# Altium integrated library Analog Devices Switches and Multiplexers Multiplexers (Muxes).IntLib: 481 symbols (part 10 of 23)
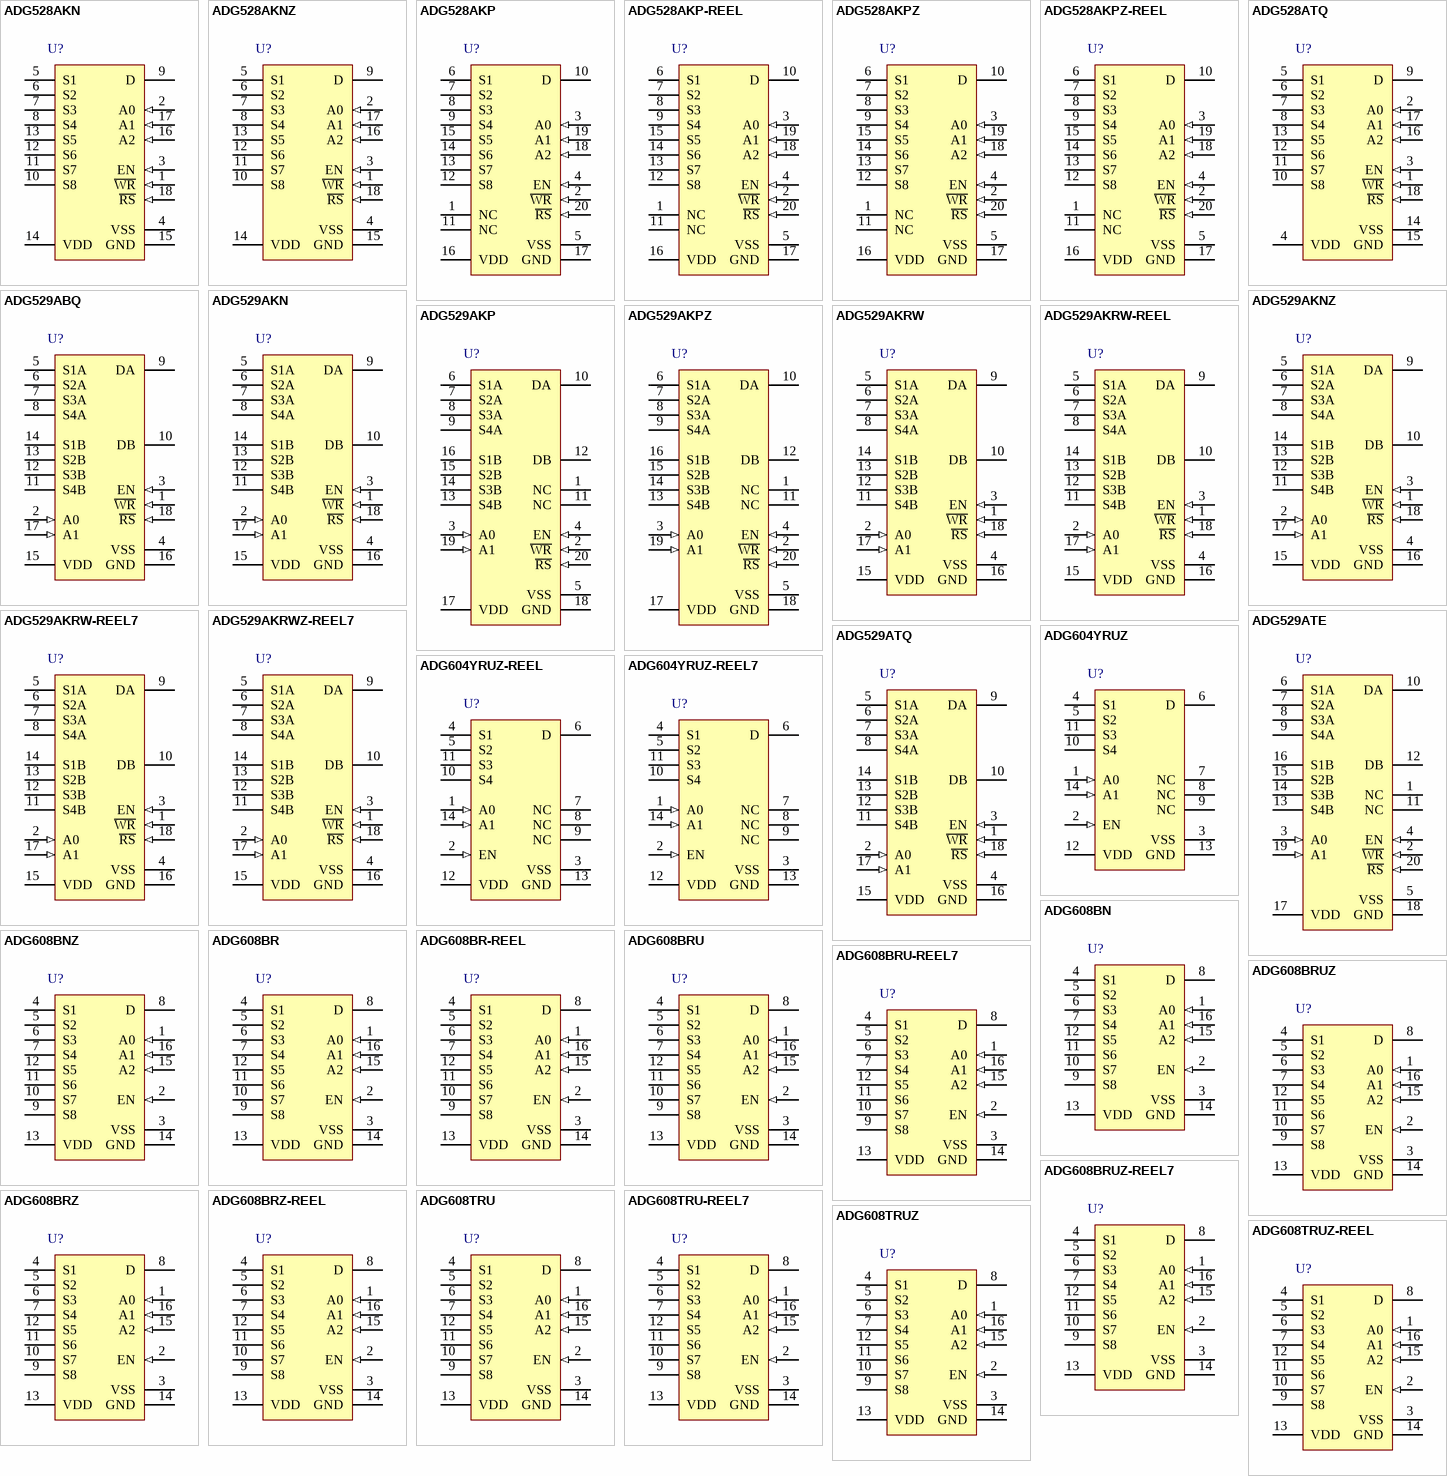
[diagram p26: symbols ADG528AKN to ADG608TRUZ-REEL]

## ADG608BRUZ-REEL7
designator U?
3 V / 5 V, 8 Channel High Performance Analog Multiplexer, -40 to 85 degC, 16-pin SOP (RU-16), Reel; Manufacturer: Analog Devices; PartNumber: ADG608BRUZ-REEL7; Max Analog Signal Range: Vss to Vdd; Ron (ohms): 22; Supply V Guar Performance: Dual_(+/-3.3V), Dual_(+/-5V), Single_(+3.3V), Single_(+5V); t transition (s): 50n; DatasheetVersion: Rev. A; PackageVersion: Nov-02; PackageReference: RU-16; PackageDescription: 16-Pin Thin Shrink Small Outline Package, Body 5 x 4.4 mm, Pitch 0.65 mm; Supplier 1: Digi-Key; Supplier Part Number 1: ADG608BRUZ-REEL7TR-ND; Supplier 2: Digi-Key; Supplier Part Number 2: ADG608BRUZ-REEL7CT-ND; Supplier 3: Digi-Key; Supplier Part Number 3: ADG608BRUZ-REEL7DKR-ND; Supplier 4: Newark; Supplier Part Number 4: 59K1418; Supplier 5: Mouser; Supplier Part Number 5: 584-ADG608BRUZ-R7; Packing: Reel; Mounting Technology: Surface Mount; Code_JEDEC: MO-153AB; ComponentLink1Description: Manufacturer URL; ComponentLink1URL: http://www.analog.com/en/index.html; ComponentLink2Description: Datasheet; ComponentLink2URL: http://www.analog.com/static/imported-files/data_sheets/ADG608_609.pdf; ComponentLink3Description: Package Specification; ComponentLink3URL: http:/www.analog.com/static/imported-files/packages/36244347913743854010197452789RU16.pdf
footprint ADI-RU-16_N (SOP, 16-Leads, Body 5x4.4mm, Pitch 0.65mm, IPC Medium Density)
footprint ADI-RU-16_L (SOP, 16-Leads, Body 5x4.4mm, Pitch 0.65mm, IPC High Density)
footprint ADI-RU-16_M (SOP, 16-Leads, Body 5x4.4mm, Pitch 0.65mm, IPC Low Density)
pins: 1 A0 (in), 2 EN (in), 3 VSS (power) "Most negative power supply potential in dual supplies. In single supply applications, it may be connected to ground.", 4 S1, 5 S2, 6 S3, 7 S4, 8 D, 9 S8, 10 S7, 11 S6, 12 S5, 13 VDD (power) "Most positive power supply potential.", 14 GND (power) "Ground (0 V) reference.", 15 A2 (in), 16 A1 (in)

## ADG608BRZ
designator U?
3 V / 5 V, 8 Channel High Performance Analog Multiplexer, -40 to 85 degC, 16-pin SOIC (R-16), Tube; Manufacturer: Analog Devices; PartNumber: ADG608BRZ; Max Analog Signal Range: Vss to Vdd; Ron (ohms): 22; Supply V Guar Performance: Dual_(+/-3.3V), Dual_(+/-5V), Single_(+3.3V), Single_(+5V); t transition (s): 50n; DatasheetVersion: Rev. A; PackageVersion: 060606-A, 06/2006; PackageReference: R-16; PackageDescription: 16-Pin Standard Small Outline Package, Body 9.9 x 3.9 mm, Pitch 1.27 mm; Supplier 1: Digi-Key; Supplier Part Number 1: ADG608BRZ-ND; Supplier 2: Farnell; Supplier Part Number 2: 1438944; Supplier 3: Newark; Supplier Part Number 3: 59K1419; Supplier 4: Mouser; Supplier Part Number 4: 584-ADG608BRZ; Packing: Tube; Mounting Technology: Surface Mount; Code_JEDEC: MS-012-AC; ComponentLink1Description: Manufacturer URL; ComponentLink1URL: http://www.analog.com/en/index.html; ComponentLink2Description: Datasheet; ComponentLink2URL: http://www.analog.com/static/imported-files/data_sheets/ADG608_609.pdf; ComponentLink3Description: Package Specification; ComponentLink3URL: http://www.analog.com/static/imported-files/packages/PKG_PDF/SOIC_Narrow%20(R)/R_16.pdf
footprint ADI-R-16_N (SOIC, 16-Leads, Body 9.9x3.9mm, Pitch 1.27mm, IPC Medium Density)
footprint ADI-R-16_L (SOIC, 16-Leads, Body 9.9x3.9mm, Pitch 1.27mm, IPC High Density)
footprint ADI-R-16_M (SOIC, 16-Leads, Body 9.9x3.9mm, Pitch 1.27mm, IPC Low Density)
pins: 1 A0 (in), 2 EN (in), 3 VSS (power), 4 S1, 5 S2, 6 S3, 7 S4, 8 D, 9 S8, 10 S7, 11 S6, 12 S5, 13 VDD (power), 14 GND (power), 15 A2 (in), 16 A1 (in)

## ADG608BRZ-REEL
designator U?
3 V / 5 V, 8 Channel High Performance Analog Multiplexer, -40 to 85 degC, 16-pin SOIC (R-16), Reel; Manufacturer: Analog Devices; PartNumber: ADG608BRZ-REEL; Max Analog Signal Range: Vss to Vdd; Ron (ohms): 22; Supply V Guar Performance: Dual_(+/-3.3V), Dual_(+/-5V), Single_(+3.3V), Single_(+5V); t transition (s): 50n; DatasheetVersion: Rev. A; PackageVersion: 060606-A, 06/2006; PackageReference: R-16; PackageDescription: 16-Pin Standard Small Outline Package, Body 9.9 x 3.9 mm, Pitch 1.27 mm; Supplier 1: Digi-Key; Supplier Part Number 1: ADG608BRZ-REELTR-ND; Supplier 2: Digi-Key; Supplier Part Number 2: ADG608BRZ-REELCT-ND; Supplier 3: Digi-Key; Supplier Part Number 3: ADG608BRZ-REELDKR-ND; Supplier 4: Newark; Supplier Part Number 4: 59K1420; Supplier 5: Mouser; Supplier Part Number 5: 584-ADG608BRZ-R; Packing: Reel; Mounting Technology: Surface Mount; Code_JEDEC: MS-012-AC; ComponentLink1Description: Manufacturer URL; ComponentLink1URL: http://www.analog.com/en/index.html; ComponentLink2Description: Datasheet; ComponentLink2URL: http://www.analog.com/static/imported-files/data_sheets/ADG608_609.pdf; ComponentLink3Description: Package Specification; ComponentLink3URL: http://www.analog.com/static/imported-files/packages/PKG_PDF/SOIC_Narrow%20(R)/R_16.pdf
footprint ADI-R-16_N (SOIC, 16-Leads, Body 9.9x3.9mm, Pitch 1.27mm, IPC Medium Density)
footprint ADI-R-16_L (SOIC, 16-Leads, Body 9.9x3.9mm, Pitch 1.27mm, IPC High Density)
footprint ADI-R-16_M (SOIC, 16-Leads, Body 9.9x3.9mm, Pitch 1.27mm, IPC Low Density)
pins: 1 A0 (in), 2 EN (in), 3 VSS (power), 4 S1, 5 S2, 6 S3, 7 S4, 8 D, 9 S8, 10 S7, 11 S6, 12 S5, 13 VDD (power), 14 GND (power), 15 A2 (in), 16 A1 (in)

## ADG608TRU
designator U?
3 V / 5 V, 8 Channel High Performance Analog Multiplexer, -55 to 125 degC, 16-pin SOP (RU-16), Tube; Manufacturer: Analog Devices; PartNumber: ADG608TRU; Max Analog Signal Range: Vss to Vdd; Ron (ohms): 22; Supply V Guar Performance: Dual_(+/-3.3V), Dual_(+/-5V), Single_(+3.3V), Single_(+5V); t transition (s): 50n; DatasheetVersion: Rev. A; PackageVersion: Nov-02; PackageReference: RU-16; PackageDescription: 16-Pin Thin Shrink Small Outline Package, Body 5 x 4.4 mm, Pitch 0.65 mm; Supplier 1: Digi-Key; Supplier Part Number 1: ADG608TRU-ND; Supplier 2: Mouser; Supplier Part Number 2: 584-ADG608TRU; Packing: Tube; Mounting Technology: Surface Mount; Code_JEDEC: MO-153AB; ComponentLink1Description: Manufacturer URL; ComponentLink1URL: http://www.analog.com/en/index.html; ComponentLink2Description: Datasheet; ComponentLink2URL: http://www.analog.com/static/imported-files/data_sheets/ADG608_609.pdf; ComponentLink3Description: Package Specification; ComponentLink3URL: http:/www.analog.com/static/imported-files/packages/36244347913743854010197452789RU16.pdf
footprint ADI-RU-16_N (SOP, 16-Leads, Body 5x4.4mm, Pitch 0.65mm, IPC Medium Density)
footprint ADI-RU-16_L (SOP, 16-Leads, Body 5x4.4mm, Pitch 0.65mm, IPC High Density)
footprint ADI-RU-16_M (SOP, 16-Leads, Body 5x4.4mm, Pitch 0.65mm, IPC Low Density)
pins: 1 A0 (in), 2 EN (in), 3 VSS (power) "Most negative power supply potential in dual supplies. In single supply applications, it may be connected to ground.", 4 S1, 5 S2, 6 S3, 7 S4, 8 D, 9 S8, 10 S7, 11 S6, 12 S5, 13 VDD (power) "Most positive power supply potential.", 14 GND (power) "Ground (0 V) reference.", 15 A2 (in), 16 A1 (in)

## ADG608TRU-REEL7
designator U?
3 V / 5 V, 8 Channel High Performance Analog Multiplexer, -55 to 125 degC, 16-pin SOP (RU-16), Reel; Manufacturer: Analog Devices; PartNumber: ADG608TRU-REEL7; Max Analog Signal Range: Vss to Vdd; Ron (ohms): 22; Supply V Guar Performance: Dual_(+/-3.3V), Dual_(+/-5V), Single_(+3.3V), Single_(+5V); t transition (s): 50n; DatasheetVersion: Rev. A; PackageVersion: Nov-02; PackageReference: RU-16; PackageDescription: 16-Pin Thin Shrink Small Outline Package, Body 5 x 4.4 mm, Pitch 0.65 mm; Supplier 1: Digi-Key; Supplier Part Number 1: ADG608TRU-REEL7-ND; Supplier 2: Newark; Supplier Part Number 2: 02H0844; Supplier 3: Mouser; Supplier Part Number 3: 584-ADG608TRU-R7; Packing: Reel; Mounting Technology: Surface Mount; Code_JEDEC: MO-153AB; ComponentLink1Description: Manufacturer URL; ComponentLink1URL: http://www.analog.com/en/index.html; ComponentLink2Description: Datasheet; ComponentLink2URL: http://www.analog.com/static/imported-files/data_sheets/ADG608_609.pdf; ComponentLink3Description: Package Specification; ComponentLink3URL: http:/www.analog.com/static/imported-files/packages/36244347913743854010197452789RU16.pdf
footprint ADI-RU-16_N (SOP, 16-Leads, Body 5x4.4mm, Pitch 0.65mm, IPC Medium Density)
footprint ADI-RU-16_L (SOP, 16-Leads, Body 5x4.4mm, Pitch 0.65mm, IPC High Density)
footprint ADI-RU-16_M (SOP, 16-Leads, Body 5x4.4mm, Pitch 0.65mm, IPC Low Density)
pins: 1 A0 (in), 2 EN (in), 3 VSS (power) "Most negative power supply potential in dual supplies. In single supply applications, it may be connected to ground.", 4 S1, 5 S2, 6 S3, 7 S4, 8 D, 9 S8, 10 S7, 11 S6, 12 S5, 13 VDD (power) "Most positive power supply potential.", 14 GND (power) "Ground (0 V) reference.", 15 A2 (in), 16 A1 (in)

## ADG608TRUZ
designator U?
3 V / 5 V, 8 Channel High Performance Analog Multiplexer, -55 to 125 degC, 16-pin SOP (RU-16), Tube; Manufacturer: Analog Devices; PartNumber: ADG608TRUZ; Max Analog Signal Range: Vss to Vdd; Ron (ohms): 22; Supply V Guar Performance: Dual_(+/-3.3V), Dual_(+/-5V), Single_(+3.3V), Single_(+5V); t transition (s): 50n; DatasheetVersion: Rev. A; PackageVersion: Nov-02; PackageReference: RU-16; PackageDescription: 16-Pin Thin Shrink Small Outline Package, Body 5 x 4.4 mm, Pitch 0.65 mm; Supplier 1: Digi-Key; Supplier Part Number 1: ADG608TRUZ-ND; Supplier 2: Farnell; Supplier Part Number 2: 2312792; Supplier 3: Newark; Supplier Part Number 3: 59K1421; Supplier 4: Mouser; Supplier Part Number 4: 584-ADG608TRUZ; Packing: Tube; Mounting Technology: Surface Mount; Code_JEDEC: MO-153AB; ComponentLink1Description: Manufacturer URL; ComponentLink1URL: http://www.analog.com/en/index.html; ComponentLink2Description: Datasheet; ComponentLink2URL: http://www.analog.com/static/imported-files/data_sheets/ADG608_609.pdf; ComponentLink3Description: Package Specification; ComponentLink3URL: http:/www.analog.com/static/imported-files/packages/36244347913743854010197452789RU16.pdf
footprint ADI-RU-16_N (SOP, 16-Leads, Body 5x4.4mm, Pitch 0.65mm, IPC Medium Density)
footprint ADI-RU-16_L (SOP, 16-Leads, Body 5x4.4mm, Pitch 0.65mm, IPC High Density)
footprint ADI-RU-16_M (SOP, 16-Leads, Body 5x4.4mm, Pitch 0.65mm, IPC Low Density)
pins: 1 A0 (in), 2 EN (in), 3 VSS (power) "Most negative power supply potential in dual supplies. In single supply applications, it may be connected to ground.", 4 S1, 5 S2, 6 S3, 7 S4, 8 D, 9 S8, 10 S7, 11 S6, 12 S5, 13 VDD (power) "Most positive power supply potential.", 14 GND (power) "Ground (0 V) reference.", 15 A2 (in), 16 A1 (in)

## ADG608TRUZ-REEL
designator U?
3 V / 5 V, 8 Channel High Performance Analog Multiplexer, -55 to 125 degC, 16-pin SOP (RU-16), Reel; Manufacturer: Analog Devices; PartNumber: ADG608TRUZ-REEL; Max Analog Signal Range: Vss to Vdd; Ron (ohms): 22; Supply V Guar Performance: Dual_(+/-3.3V), Dual_(+/-5V), Single_(+3.3V), Single_(+5V); t transition (s): 50n; DatasheetVersion: Rev. A; PackageVersion: Nov-02; PackageReference: RU-16; PackageDescription: 16-Pin Thin Shrink Small Outline Package, Body 5 x 4.4 mm, Pitch 0.65 mm; Supplier 1: Digi-Key; Supplier Part Number 1: ADG608TRUZ-REEL-ND; Supplier 2: Mouser; Supplier Part Number 2: 584-ADG608TRUZ-R; Packing: Reel; Mounting Technology: Surface Mount; Code_JEDEC: MO-153AB; ComponentLink1Description: Manufacturer URL; ComponentLink1URL: http://www.analog.com/en/index.html; ComponentLink2Description: Datasheet; ComponentLink2URL: http://www.analog.com/static/imported-files/data_sheets/ADG608_609.pdf; ComponentLink3Description: Package Specification; ComponentLink3URL: http:/www.analog.com/static/imported-files/packages/36244347913743854010197452789RU16.pdf
footprint ADI-RU-16_N (SOP, 16-Leads, Body 5x4.4mm, Pitch 0.65mm, IPC Medium Density)
footprint ADI-RU-16_L (SOP, 16-Leads, Body 5x4.4mm, Pitch 0.65mm, IPC High Density)
footprint ADI-RU-16_M (SOP, 16-Leads, Body 5x4.4mm, Pitch 0.65mm, IPC Low Density)
pins: 1 A0 (in), 2 EN (in), 3 VSS (power) "Most negative power supply potential in dual supplies. In single supply applications, it may be connected to ground.", 4 S1, 5 S2, 6 S3, 7 S4, 8 D, 9 S8, 10 S7, 11 S6, 12 S5, 13 VDD (power) "Most positive power supply potential.", 14 GND (power) "Ground (0 V) reference.", 15 A2 (in), 16 A1 (in)

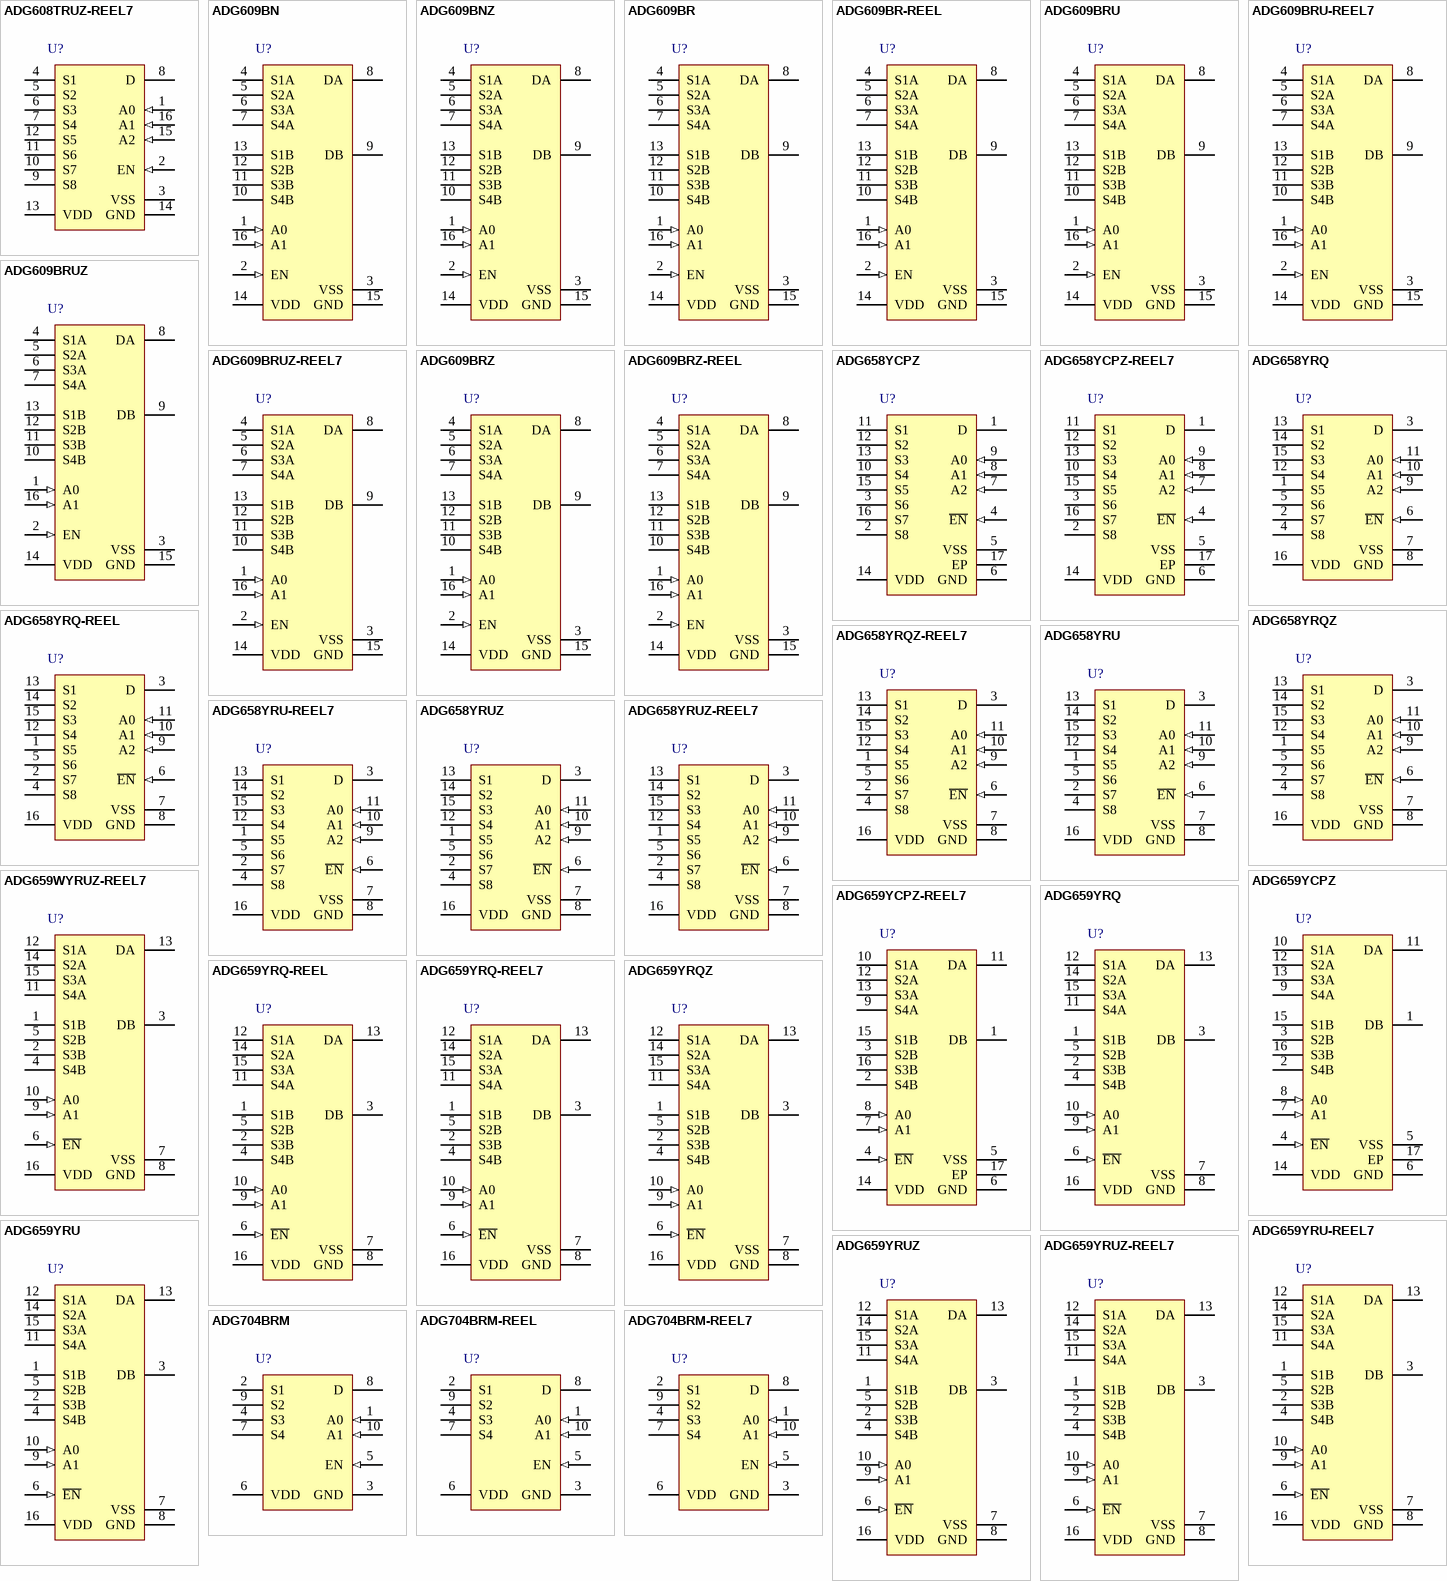
[diagram p8: symbols ADG608TRUZ-REEL7 to ADG704BRM-REEL7]

## ADG608TRUZ-REEL7
designator U?
3 V / 5 V, 8 Channel High Performance Analog Multiplexer, -55 to 125 degC, 16-pin SOP (RU-16), Reel; Manufacturer: Analog Devices; PartNumber: ADG608TRUZ-REEL7; Max Analog Signal Range: Vss to Vdd; Ron (ohms): 22; Supply V Guar Performance: Dual_(+/-3.3V), Dual_(+/-5V), Single_(+3.3V), Single_(+5V); t transition (s): 50n; DatasheetVersion: Rev. A; PackageVersion: Nov-02; PackageReference: RU-16; PackageDescription: 16-Pin Thin Shrink Small Outline Package, Body 5 x 4.4 mm, Pitch 0.65 mm; Supplier 1: Digi-Key; Supplier Part Number 1: ADG608TRUZ-REEL7-ND; Supplier 2: Mouser; Supplier Part Number 2: 584-ADG608TRUZ-R7; Packing: Reel; Mounting Technology: Surface Mount; Code_JEDEC: MO-153AB; ComponentLink1Description: Manufacturer URL; ComponentLink1URL: http://www.analog.com/en/index.html; ComponentLink2Description: Datasheet; ComponentLink2URL: http://www.analog.com/static/imported-files/data_sheets/ADG608_609.pdf; ComponentLink3Description: Package Specification; ComponentLink3URL: http:/www.analog.com/static/imported-files/packages/36244347913743854010197452789RU16.pdf
footprint ADI-RU-16_N (SOP, 16-Leads, Body 5x4.4mm, Pitch 0.65mm, IPC Medium Density)
footprint ADI-RU-16_L (SOP, 16-Leads, Body 5x4.4mm, Pitch 0.65mm, IPC High Density)
footprint ADI-RU-16_M (SOP, 16-Leads, Body 5x4.4mm, Pitch 0.65mm, IPC Low Density)
pins: 1 A0 (in), 2 EN (in), 3 VSS (power) "Most negative power supply potential in dual supplies. In single supply applications, it may be connected to ground.", 4 S1, 5 S2, 6 S3, 7 S4, 8 D, 9 S8, 10 S7, 11 S6, 12 S5, 13 VDD (power) "Most positive power supply potential.", 14 GND (power) "Ground (0 V) reference.", 15 A2 (in), 16 A1 (in)

## ADG609BN
designator U?
3 V / 5 V, 4 Channel High Performance Analog Multiplexer, -40 to 85 degC, 16-pin DIP (N-16), Tube; Manufacturer: Analog Devices; PartNumber: ADG609BN; Max Analog Signal Range: Vss to Vdd; Ron (ohms): 22; Supply V Guar Performance: Dual_(+/-3.3V), Dual_(+/-5V), Single_(+3.3V), Single_(+5V); t transition (s): 50n; DatasheetVersion: Rev. A; PackageVersion: 070706-A, 07/2006; PackageReference: N-16; PackageDescription: 16-Pin Plastic Dual In-Line Package, Row spacing 7.62 mm, Pitch 2.54 mm; Supplier 1: Digi-Key; Supplier Part Number 1: ADG609BN-ND; Supplier 2: Newark; Supplier Part Number 2: 66F3790; Packing: Tube; Mounting Technology: Through Hole; Code_JEDEC: MS-001; ComponentLink1Description: Manufacturer URL; ComponentLink1URL: http://www.analog.com/en/index.html; ComponentLink2Description: Datasheet; ComponentLink2URL: http://www.analog.com/static/imported-files/data_sheets/ADG608_609.pdf; ComponentLink3Description: Package Specification; ComponentLink3URL: http://www.analog.com/static/imported-files/packages/44768431550332N_16.pdf
footprint ADI-N-16 (DIP, 16-Leads, Body 20.07x6.6mm, Pitch 2.54mm)
pins: 1 A0 (in), 2 EN (in), 3 VSS (power) "Most negative power supply potential in dual supplies. In single supply applications, it may be connected to ground.", 4 S1A, 5 S2A, 6 S3A, 7 S4A, 8 DA, 9 DB, 10 S4B, 11 S3B, 12 S2B, 13 S1B, 14 VDD (power) "Most positive power supply potential.", 15 GND (power) "Ground (0 V) reference.", 16 A1 (in)

## ADG609BNZ
designator U?
3 V / 5 V, 4 Channel High Performance Analog Multiplexer, -40 to 85 degC, 16-pin DIP (N-16), Tube; Manufacturer: Analog Devices; PartNumber: ADG609BNZ; Max Analog Signal Range: Vss to Vdd; Ron (ohms): 22; Supply V Guar Performance: Dual_(+/-3.3V), Dual_(+/-5V), Single_(+3.3V), Single_(+5V); t transition (s): 50 ns; DatasheetVersion: Rev. A; PackageVersion: 070706-A, 07/2006; PackageReference: N-16; PackageDescription: 16-Pin Plastic Dual In-Line Package, Row spacing 7.62 mm, Pitch 2.54 mm; Supplier 1: Digi-Key; Supplier Part Number 1: ADG609BNZ-ND; Supplier 2: Farnell; Supplier Part Number 2: 1438945; Supplier 3: Newark; Supplier Part Number 3: 15P0385; Supplier 4: Mouser; Supplier Part Number 4: 584-ADG609BNZ; Packing: Tube; Mounting Technology: Through Hole; Code_JEDEC: MS-001; ComponentLink1Description: Manufacturer URL; ComponentLink1URL: http://www.analog.com/en/index.html; ComponentLink2Description: Datasheet; ComponentLink2URL: http://www.analog.com/static/imported-files/data_sheets/ADG608_609.pdf; ComponentLink3Description: Package Specification; ComponentLink3URL: http://www.analog.com/static/imported-files/packages/44768431550332N_16.pdf
footprint ADI-N-16 (DIP, 16-Leads, Body 20.07x6.6mm, Pitch 2.54mm)
pins: 1 A0 (in), 2 EN (in), 3 VSS (power) "Most negative power supply potential in dual supplies. In single supply applications, it may be connected to ground.", 4 S1A, 5 S2A, 6 S3A, 7 S4A, 8 DA, 9 DB, 10 S4B, 11 S3B, 12 S2B, 13 S1B, 14 VDD (power) "Most positive power supply potential.", 15 GND (power) "Ground (0 V) reference.", 16 A1 (in)

## ADG609BR
designator U?
3 V / 5 V, 4 Channel High Performance Analog Multiplexer, -40 to 85 degC, 16-pin SOIC (R-16), Tube; Manufacturer: Analog Devices; PartNumber: ADG609BR; Max Analog Signal Range: Vss to Vdd; Ron (ohms): 22; Supply V Guar Performance: Dual_(+/-3.3V), Dual_(+/-5V), Single_(+3.3V), Single_(+5V); t transition (s): 50 ns; DatasheetVersion: Rev. A; PackageVersion: 060606-A, 06/2006; PackageReference: R-16; PackageDescription: 16-Pin Standard Small Outline Package, Body 9.9 x 3.9 mm, Pitch 1.27 mm; Supplier 1: Digi-Key; Supplier Part Number 1: ADG609BR-ND; Supplier 2: Mouser; Supplier Part Number 2: 584-ADG609BR; Packing: Tube; Mounting Technology: Surface Mount; Code_JEDEC: MS-012-AC; ComponentLink1Description: Manufacturer URL; ComponentLink1URL: http://www.analog.com/en/index.html; ComponentLink2Description: Datasheet; ComponentLink2URL: http://www.analog.com/static/imported-files/data_sheets/ADG608_609.pdf; ComponentLink3Description: Package Specification; ComponentLink3URL: http://www.analog.com/static/imported-files/packages/PKG_PDF/SOIC_Narrow%20(R)/R_16.pdf
footprint ADI-R-16_N (SOIC, 16-Leads, Body 9.9x3.9mm, Pitch 1.27mm, IPC Medium Density)
footprint ADI-R-16_L (SOIC, 16-Leads, Body 9.9x3.9mm, Pitch 1.27mm, IPC High Density)
footprint ADI-R-16_M (SOIC, 16-Leads, Body 9.9x3.9mm, Pitch 1.27mm, IPC Low Density)
pins: 1 A0 (in), 2 EN (in), 3 VSS (power), 4 S1A, 5 S2A, 6 S3A, 7 S4A, 8 DA, 9 DB, 10 S4B, 11 S3B, 12 S2B, 13 S1B, 14 VDD (power), 15 GND (power), 16 A1 (in)

## ADG609BR-REEL
designator U?
3 V / 5 V, 4 Channel High Performance Analog Multiplexer, -40 to 85 degC, 16-pin SOIC (R-16), Reel; Manufacturer: Analog Devices; PartNumber: ADG609BR-REEL; Max Analog Signal Range: Vss to Vdd; Ron (ohms): 22; Supply V Guar Performance: Dual_(+/-3.3V), Dual_(+/-5V), Single_(+3.3V), Single_(+5V); t transition (s): 50 ns; DatasheetVersion: Rev. A; PackageVersion: 060606-A, 06/2006; PackageReference: R-16; PackageDescription: 16-Pin Standard Small Outline Package, Body 9.9 x 3.9 mm, Pitch 1.27 mm; Packing: Reel; Mounting Technology: Surface Mount; Code_JEDEC: MS-012-AC; ComponentLink1Description: Manufacturer URL; ComponentLink1URL: http://www.analog.com/en/index.html; ComponentLink2Description: Datasheet; ComponentLink2URL: http://www.analog.com/static/imported-files/data_sheets/ADG608_609.pdf; ComponentLink3Description: Package Specification; ComponentLink3URL: http://www.analog.com/static/imported-files/packages/PKG_PDF/SOIC_Narrow%20(R)/R_16.pdf
footprint ADI-R-16_N (SOIC, 16-Leads, Body 9.9x3.9mm, Pitch 1.27mm, IPC Medium Density)
footprint ADI-R-16_L (SOIC, 16-Leads, Body 9.9x3.9mm, Pitch 1.27mm, IPC High Density)
footprint ADI-R-16_M (SOIC, 16-Leads, Body 9.9x3.9mm, Pitch 1.27mm, IPC Low Density)
pins: 1 A0 (in), 2 EN (in), 3 VSS (power), 4 S1A, 5 S2A, 6 S3A, 7 S4A, 8 DA, 9 DB, 10 S4B, 11 S3B, 12 S2B, 13 S1B, 14 VDD (power), 15 GND (power), 16 A1 (in)

## ADG609BRU
designator U?
3 V / 5 V, 4 Channel High Performance Analog Multiplexer, -40 to 85 degC, 16-pin SOP (RU-16), Tube; Manufacturer: Analog Devices; PartNumber: ADG609BRU; Max Analog Signal Range: Vss to Vdd; Ron (ohms): 22; Supply V Guar Performance: Dual_(+/-3.3V), Dual_(+/-5V), Single_(+3.3V), Single_(+5V); t transition (s): 50n; DatasheetVersion: Rev. A; PackageVersion: Nov-02; PackageReference: RU-16; PackageDescription: 16-Pin Thin Shrink Small Outline Package, Body 5 x 4.4 mm, Pitch 0.65 mm; Supplier 1: Digi-Key; Supplier Part Number 1: ADG609BRU-ND; Supplier 2: Mouser; Supplier Part Number 2: 584-ADG609BRU; Packing: Tube; Mounting Technology: Surface Mount; Code_JEDEC: MO-153AB; ComponentLink1Description: Manufacturer URL; ComponentLink1URL: http://www.analog.com/en/index.html; ComponentLink2Description: Datasheet; ComponentLink2URL: http://www.analog.com/static/imported-files/data_sheets/ADG608_609.pdf; ComponentLink3Description: Package Specification; ComponentLink3URL: http:/www.analog.com/static/imported-files/packages/36244347913743854010197452789RU16.pdf
footprint ADI-RU-16_N (SOP, 16-Leads, Body 5x4.4mm, Pitch 0.65mm, IPC Medium Density)
footprint ADI-RU-16_L (SOP, 16-Leads, Body 5x4.4mm, Pitch 0.65mm, IPC High Density)
footprint ADI-RU-16_M (SOP, 16-Leads, Body 5x4.4mm, Pitch 0.65mm, IPC Low Density)
pins: 1 A0 (in), 2 EN (in), 3 VSS (power) "Most negative power supply potential in dual supplies. In single supply applications, it may be connected to ground.", 4 S1A, 5 S2A, 6 S3A, 7 S4A, 8 DA, 9 DB, 10 S4B, 11 S3B, 12 S2B, 13 S1B, 14 VDD (power) "Most positive power supply potential.", 15 GND (power) "Ground (0 V) reference.", 16 A1 (in)

## ADG609BRU-REEL7
designator U?
3 V / 5 V, 4 Channel High Performance Analog Multiplexer, -40 to 85 degC, 16-pin SOP (RU-16), Reel; Manufacturer: Analog Devices; PartNumber: ADG609BRU-REEL7; Max Analog Signal Range: Vss to Vdd; Ron (ohms): 22; Supply V Guar Performance: Dual_(+/-3.3V), Dual_(+/-5V), Single_(+3.3V), Single_(+5V); t transition (s): 50n; DatasheetVersion: Rev. A; PackageVersion: Nov-02; PackageReference: RU-16; PackageDescription: 16-Pin Thin Shrink Small Outline Package, Body 5 x 4.4 mm, Pitch 0.65 mm; Supplier 1: Digi-Key; Supplier Part Number 1: ADG609BRU-REEL7-ND; Packing: Reel; Mounting Technology: Surface Mount; Code_JEDEC: MO-153AB; ComponentLink1Description: Manufacturer URL; ComponentLink1URL: http://www.analog.com/en/index.html; ComponentLink2Description: Datasheet; ComponentLink2URL: http://www.analog.com/static/imported-files/data_sheets/ADG608_609.pdf; ComponentLink3Description: Package Specification; ComponentLink3URL: http:/www.analog.com/static/imported-files/packages/36244347913743854010197452789RU16.pdf
footprint ADI-RU-16_N (SOP, 16-Leads, Body 5x4.4mm, Pitch 0.65mm, IPC Medium Density)
footprint ADI-RU-16_L (SOP, 16-Leads, Body 5x4.4mm, Pitch 0.65mm, IPC High Density)
footprint ADI-RU-16_M (SOP, 16-Leads, Body 5x4.4mm, Pitch 0.65mm, IPC Low Density)
pins: 1 A0 (in), 2 EN (in), 3 VSS (power) "Most negative power supply potential in dual supplies. In single supply applications, it may be connected to ground.", 4 S1A, 5 S2A, 6 S3A, 7 S4A, 8 DA, 9 DB, 10 S4B, 11 S3B, 12 S2B, 13 S1B, 14 VDD (power) "Most positive power supply potential.", 15 GND (power) "Ground (0 V) reference.", 16 A1 (in)

## ADG609BRUZ
designator U?
3 V / 5 V, 4 Channel High Performance Analog Multiplexer, -40 to 85 degC, 16-pin SOP (RU-16), Tube; Manufacturer: Analog Devices; PartNumber: ADG609BRUZ; Max Analog Signal Range: Vss to Vdd; Ron (ohms): 22; Supply V Guar Performance: Dual_(+/-3.3V), Dual_(+/-5V), Single_(+3.3V), Single_(+5V); t transition (s): 50 ns; DatasheetVersion: Rev. A; PackageVersion: Nov-02; PackageReference: RU-16; PackageDescription: 16-Pin Thin Shrink Small Outline Package, Body 5 x 4.4 mm, Pitch 0.65 mm; Supplier 1: Digi-Key; Supplier Part Number 1: ADG609BRUZ-ND; Supplier 2: Farnell; Supplier Part Number 2: 1838902; Supplier 3: Newark; Supplier Part Number 3: 19M8664; Supplier 4: Mouser; Supplier Part Number 4: 584-ADG609BRUZ; Packing: Tube; Mounting Technology: Surface Mount; Code_JEDEC: MO-153AB; ComponentLink1Description: Manufacturer URL; ComponentLink1URL: http://www.analog.com/en/index.html; ComponentLink2Description: Datasheet; ComponentLink2URL: http://www.analog.com/static/imported-files/data_sheets/ADG608_609.pdf; ComponentLink3Description: Package Specification; ComponentLink3URL: http:/www.analog.com/static/imported-files/packages/36244347913743854010197452789RU16.pdf
footprint ADI-RU-16_N (SOP, 16-Leads, Body 5x4.4mm, Pitch 0.65mm, IPC Medium Density)
footprint ADI-RU-16_L (SOP, 16-Leads, Body 5x4.4mm, Pitch 0.65mm, IPC High Density)
footprint ADI-RU-16_M (SOP, 16-Leads, Body 5x4.4mm, Pitch 0.65mm, IPC Low Density)
pins: 1 A0 (in), 2 EN (in), 3 VSS (power) "Most negative power supply potential in dual supplies. In single supply applications, it may be connected to ground.", 4 S1A, 5 S2A, 6 S3A, 7 S4A, 8 DA, 9 DB, 10 S4B, 11 S3B, 12 S2B, 13 S1B, 14 VDD (power) "Most positive power supply potential.", 15 GND (power) "Ground (0 V) reference.", 16 A1 (in)

## ADG609BRUZ-REEL7
designator U?
3 V / 5 V, 4 Channel High Performance Analog Multiplexer, -40 to 85 degC, 16-pin SOP (RU-16), Reel; Manufacturer: Analog Devices; PartNumber: ADG609BRUZ-REEL7; Max Analog Signal Range: Vss to Vdd; Ron (ohms): 22; Supply V Guar Performance: Dual_(+/-3.3V), Dual_(+/-5V), Single_(+3.3V), Single_(+5V); t transition (s): 50 ns; DatasheetVersion: Rev. A; PackageVersion: Nov-02; PackageReference: RU-16; PackageDescription: 16-Pin Thin Shrink Small Outline Package, Body 5 x 4.4 mm, Pitch 0.65 mm; Supplier 1: Digi-Key; Supplier Part Number 1: ADG609BRUZ-REEL7TR-ND; Supplier 2: Digi-Key; Supplier Part Number 2: ADG609BRUZ-REEL7CT-ND; Supplier 3: Digi-Key; Supplier Part Number 3: ADG609BRUZ-REEL7DKR-ND; Supplier 4: Newark; Supplier Part Number 4: 59K1425; Supplier 5: Mouser; Supplier Part Number 5: 584-ADG609BRUZ-R7; Packing: Reel; Mounting Technology: Surface Mount; Code_JEDEC: MO-153AB; ComponentLink1Description: Manufacturer URL; ComponentLink1URL: http://www.analog.com/en/index.html; ComponentLink2Description: Datasheet; ComponentLink2URL: http://www.analog.com/static/imported-files/data_sheets/ADG608_609.pdf; ComponentLink3Description: Package Specification; ComponentLink3URL: http:/www.analog.com/static/imported-files/packages/36244347913743854010197452789RU16.pdf
footprint ADI-RU-16_N (SOP, 16-Leads, Body 5x4.4mm, Pitch 0.65mm, IPC Medium Density)
footprint ADI-RU-16_L (SOP, 16-Leads, Body 5x4.4mm, Pitch 0.65mm, IPC High Density)
footprint ADI-RU-16_M (SOP, 16-Leads, Body 5x4.4mm, Pitch 0.65mm, IPC Low Density)
pins: 1 A0 (in), 2 EN (in), 3 VSS (power) "Most negative power supply potential in dual supplies. In single supply applications, it may be connected to ground.", 4 S1A, 5 S2A, 6 S3A, 7 S4A, 8 DA, 9 DB, 10 S4B, 11 S3B, 12 S2B, 13 S1B, 14 VDD (power) "Most positive power supply potential.", 15 GND (power) "Ground (0 V) reference.", 16 A1 (in)

## ADG609BRZ
designator U?
3 V / 5 V, 4 Channel High Performance Analog Multiplexer, -40 to 85 degC, 16-pin SOIC (R-16), Tube; Manufacturer: Analog Devices; PartNumber: ADG609BRZ; Max Analog Signal Range: Vss to Vdd; Ron (ohms): 22; Supply V Guar Performance: Dual_(+/-3.3V), Dual_(+/-5V), Single_(+3.3V), Single_(+5V); t transition (s): 50 ns; DatasheetVersion: Rev. A; PackageVersion: 060606-A, 06/2006; PackageReference: R-16; PackageDescription: 16-Pin Standard Small Outline Package, Body 9.9 x 3.9 mm, Pitch 1.27 mm; Supplier 1: Digi-Key; Supplier Part Number 1: ADG609BRZ-ND; Supplier 2: Farnell; Supplier Part Number 2: 1438946; Supplier 3: Newark; Supplier Part Number 3: 59K1426; Supplier 4: Mouser; Supplier Part Number 4: 584-ADG609BRZ; Packing: Tube; Mounting Technology: Surface Mount; Code_JEDEC: MS-012-AC; ComponentLink1Description: Manufacturer URL; ComponentLink1URL: http://www.analog.com/en/index.html; ComponentLink2Description: Datasheet; ComponentLink2URL: http://www.analog.com/static/imported-files/data_sheets/ADG608_609.pdf; ComponentLink3Description: Package Specification; ComponentLink3URL: http://www.analog.com/static/imported-files/packages/PKG_PDF/SOIC_Narrow%20(R)/R_16.pdf
footprint ADI-R-16_N (SOIC, 16-Leads, Body 9.9x3.9mm, Pitch 1.27mm, IPC Medium Density)
footprint ADI-R-16_L (SOIC, 16-Leads, Body 9.9x3.9mm, Pitch 1.27mm, IPC High Density)
footprint ADI-R-16_M (SOIC, 16-Leads, Body 9.9x3.9mm, Pitch 1.27mm, IPC Low Density)
pins: 1 A0 (in), 2 EN (in), 3 VSS (power), 4 S1A, 5 S2A, 6 S3A, 7 S4A, 8 DA, 9 DB, 10 S4B, 11 S3B, 12 S2B, 13 S1B, 14 VDD (power), 15 GND (power), 16 A1 (in)

## ADG609BRZ-REEL
designator U?
3 V / 5 V, 4 Channel High Performance Analog Multiplexer, -40 to 85 degC, 16-pin SOIC (R-16), Reel; Manufacturer: Analog Devices; PartNumber: ADG609BRZ-REEL; Max Analog Signal Range: Vss to Vdd; Ron (ohms): 22; Supply V Guar Performance: Dual_(+/-3.3V), Dual_(+/-5V), Single_(+3.3V), Single_(+5V); t transition (s): 50n; DatasheetVersion: Rev. A; PackageVersion: 060606-A, 06/2006; PackageReference: R-16; PackageDescription: 16-Pin Standard Small Outline Package, Body 9.9 x 3.9 mm, Pitch 1.27 mm; Supplier 1: Digi-Key; Supplier Part Number 1: ADG609BRZ-REEL-ND; Supplier 2: Newark; Supplier Part Number 2: 59K1427; Supplier 3: Mouser; Supplier Part Number 3: 584-ADG609BRZ-R; Packing: Reel; Mounting Technology: Surface Mount; Code_JEDEC: MS-012-AC; ComponentLink1Description: Manufacturer URL; ComponentLink1URL: http://www.analog.com/en/index.html; ComponentLink2Description: Datasheet; ComponentLink2URL: http://www.analog.com/static/imported-files/data_sheets/ADG608_609.pdf; ComponentLink3Description: Package Specification; ComponentLink3URL: http://www.analog.com/static/imported-files/packages/PKG_PDF/SOIC_Narrow%20(R)/R_16.pdf
footprint ADI-R-16_N (SOIC, 16-Leads, Body 9.9x3.9mm, Pitch 1.27mm, IPC Medium Density)
footprint ADI-R-16_L (SOIC, 16-Leads, Body 9.9x3.9mm, Pitch 1.27mm, IPC High Density)
footprint ADI-R-16_M (SOIC, 16-Leads, Body 9.9x3.9mm, Pitch 1.27mm, IPC Low Density)
pins: 1 A0 (in), 2 EN (in), 3 VSS (power), 4 S1A, 5 S2A, 6 S3A, 7 S4A, 8 DA, 9 DB, 10 S4B, 11 S3B, 12 S2B, 13 S1B, 14 VDD (power), 15 GND (power), 16 A1 (in)

## ADG658YCPZ
designator U?
3 V / 5 V / +/-5 V CMOS 8-Channel Analog Multiplexer, -40 to 85 degC, 16-pin QFN (CP-16-4), Tray; Manufacturer: Analog Devices; PartNumber: ADG658YCPZ; Bandwidth (Hz): 210M; Max Analog Signal Range: Vss to Vdd; Ron (ohms): 45; Supply V Guar Performance: Dual_(+/-5V), Single_(+3.3V), Single_(+3V), Single_(+5V); t transition (s): 80n; DatasheetVersion: Rev. B; PackageVersion: 010606-0, 01/2006; PackageReference: CP-16-4; PackageDescription: 16-Pin Lead Frame Chip Scale Package, Body 4 x 4 mm, Pitch 0.65 mm; Supplier 1: Digi-Key; Supplier Part Number 1: ADG658YCPZ-ND; Supplier 2: Newark; Supplier Part Number 2: 12M7823; Supplier 3: Mouser; Supplier Part Number 3: 584-ADG658YCPZ; Packing: Tray; Mounting Technology: Surface Mount; Code_JEDEC: MO-220-VGGC; ComponentLink1Description: Manufacturer URL; ComponentLink1URL: http://www.analog.com/en/index.html; ComponentLink2Description: Datasheet; ComponentLink2URL: http://www.analog.com/static/imported-files/data_sheets/ADG658_659.pdf; ComponentLink3Description: Package Specification; ComponentLink3URL: http://www.analog.com/static/imported-files/packages/46009454504174339653421710019CP_16_4.pdf
footprint CP-16-4_N (QFN, 16-Leads, Body 4x4mm, Pitch 0.65mm, Thermal Pad 2.1x2.1mm, IPC Medium Density)
footprint CP-16-4_L (QFN, 16-Leads, Body 4x4mm, Pitch 0.65mm, Thermal Pad 2.1x2.1mm, IPC High Density)
footprint CP-16-4_M (QFN, 16-Leads, Body 4x4mm, Pitch 0.65mm, Thermal Pad 2.1x2.1mm, IPC Low Density)
pins: 1 D "Drain Terminal. May be an input or output.", 2 S8 "Source Terminal. May be an input or output.", 3 S6 "Source Terminal. May be an input or output.", 4 ~{EN} (in) "Active Low Digital Input. When high, device is disabled and all switches are OFF. When low, AX logic inputs determine ON switch.", 5 VSS (power) "Most Negative Power Supply Potential.", 6 GND (power) "Ground (0 V) Reference.", 7 A2 (in) "Logic Control Input.", 8 A1 (in) "Logic Control Input.", 9 A0 (in) "Logic Control Input.", 10 S4 "Source Terminal. May be an input or output.", 11 S1 "Source Terminal. May be an input or output.", 12 S2 "Source Terminal. May be an input or output.", 13 S3 "Source Terminal. May be an input or output.", 14 VDD (power) "Most Positive Power Supply Potential.", 15 S5 "Source Terminal. May be an input or output.", 16 S7 "Source Terminal. May be an input or output.", 17 EP

## ADG658YCPZ-REEL7
designator U?
3 V / 5 V / +/-5 V CMOS 8-Channel Analog Multiplexer, -40 to 85 degC, 16-pin QFN (CP-16-4), Reel; Manufacturer: Analog Devices; PartNumber: ADG658YCPZ-REEL7; Bandwidth (Hz): 210M; Max Analog Signal Range: Vss to Vdd; Ron (ohms): 45; Supply V Guar Performance: Dual_(+/-5V), Single_(+3.3V), Single_(+3V), Single_(+5V); t transition (s): 80n; DatasheetVersion: Rev. B; PackageVersion: 010606-0, 01/2006; PackageReference: CP-16-4; PackageDescription: 16-Pin Lead Frame Chip Scale Package, Body 4 x 4 mm, Pitch 0.65 mm; Supplier 1: Digi-Key; Supplier Part Number 1: ADG658YCPZ-REEL7-ND; Supplier 2: Mouser; Supplier Part Number 2: 584-ADG658YCPZ-R7; Packing: Reel; Mounting Technology: Surface Mount; Code_JEDEC: MO-220-VGGC; ComponentLink1Description: Manufacturer URL; ComponentLink1URL: http://www.analog.com/en/index.html; ComponentLink2Description: Datasheet; ComponentLink2URL: http://www.analog.com/static/imported-files/data_sheets/ADG658_659.pdf; ComponentLink3Description: Package Specification; ComponentLink3URL: http://www.analog.com/static/imported-files/packages/46009454504174339653421710019CP_16_4.pdf
footprint CP-16-4_N (QFN, 16-Leads, Body 4x4mm, Pitch 0.65mm, Thermal Pad 2.1x2.1mm, IPC Medium Density)
footprint CP-16-4_L (QFN, 16-Leads, Body 4x4mm, Pitch 0.65mm, Thermal Pad 2.1x2.1mm, IPC High Density)
footprint CP-16-4_M (QFN, 16-Leads, Body 4x4mm, Pitch 0.65mm, Thermal Pad 2.1x2.1mm, IPC Low Density)
pins: 1 D "Drain Terminal. May be an input or output.", 2 S8 "Source Terminal. May be an input or output.", 3 S6 "Source Terminal. May be an input or output.", 4 ~{EN} (in) "Active Low Digital Input. When high, device is disabled and all switches are OFF. When low, AX logic inputs determine ON switch.", 5 VSS (power) "Most Negative Power Supply Potential.", 6 GND (power) "Ground (0 V) Reference.", 7 A2 (in) "Logic Control Input.", 8 A1 (in) "Logic Control Input.", 9 A0 (in) "Logic Control Input.", 10 S4 "Source Terminal. May be an input or output.", 11 S1 "Source Terminal. May be an input or output.", 12 S2 "Source Terminal. May be an input or output.", 13 S3 "Source Terminal. May be an input or output.", 14 VDD (power) "Most Positive Power Supply Potential.", 15 S5 "Source Terminal. May be an input or output.", 16 S7 "Source Terminal. May be an input or output.", 17 EP

## ADG658YRQ
designator U?
3 V / 5 V / +/-5 V CMOS 8-Channel Analog Multiplexer, -40 to 125 degC, 16-pin SOP (RQ-16), Tube; Manufacturer: Analog Devices; PartNumber: ADG658YRQ; Bandwidth (Hz): 210M; Max Analog Signal Range: Vss to Vdd; Ron (ohms): 45; Supply V Guar Performance: Dual_(+/-5V), Single_(+3.3V), Single_(+3V), Single_(+5V); t transition (s): 80n; DatasheetVersion: Rev. B; PackageVersion: Aug-05; PackageReference: RQ-16; PackageDescription: 16-Pin Shrink Small Outline Package, Body 4.9 x 3.9 mm, Pitch 0.64 mm; Supplier 1: Digi-Key; Supplier Part Number 1: ADG658YRQ-ND; Supplier 2: Mouser; Supplier Part Number 2: 584-ADG658YRQ; Packing: Tube; Mounting Technology: Surface Mount; Code_JEDEC: MO-137-AB; ComponentLink1Description: Manufacturer URL; ComponentLink1URL: http://www.analog.com/en/index.html; ComponentLink2Description: Datasheet; ComponentLink2URL: http://www.analog.com/static/imported-files/data_sheets/ADG658_659.pdf; ComponentLink3Description: Package Specification; ComponentLink3URL: http://www.analog.com/static/imported-files/packages/5595549651201762937RQ_16.pdf
footprint ADI-RQ-16_N (SOP, 16-Leads, Body 4.9x3.9mm, Pitch 0.64mm, IPC Medium Density)
footprint ADI-RQ-16_L (SOP, 16-Leads, Body 4.9x3.9mm, Pitch 0.64mm, IPC High Density)
footprint ADI-RQ-16_M (SOP, 16-Leads, Body 4.9x3.9mm, Pitch 0.64mm, IPC Low Density)
pins: 1 S5 "Source Terminal. May be an input or output.", 2 S7 "Source Terminal. May be an input or output.", 3 D "Drain Terminal. May be an input or output.", 4 S8 "Source Terminal. May be an input or output.", 5 S6 "Source Terminal. May be an input or output.", 6 ~{EN} (in) "Active Low Digital Input. When high, device is disabled and all switches are OFF. When low, AX logic inputs determine ON switch.", 7 VSS (power) "Most Negative Power Supply Potential.", 8 GND (power) "Ground (0 V) Reference.", 9 A2 (in) "Logic Control Input.", 10 A1 (in) "Logic Control Input.", 11 A0 (in) "Logic Control Input.", 12 S4 "Source Terminal. May be an input or output.", 13 S1 "Source Terminal. May be an input or output.", 14 S2 "Source Terminal. May be an input or output.", 15 S3 "Source Terminal. May be an input or output.", 16 VDD (power) "Most Positive Power Supply Potential."

## ADG658YRQ-REEL
designator U?
3 V / 5 V / +/-5 V CMOS 8-Channel Analog Multiplexer, -40 to 125 degC, 16-pin SOP (RQ-16), Reel; Manufacturer: Analog Devices; PartNumber: ADG658YRQ-REEL; Bandwidth (Hz): 210M; Max Analog Signal Range: Vss to Vdd; Ron (ohms): 45; Supply V Guar Performance: Dual_(+/-5V), Single_(+3.3V), Single_(+3V), Single_(+5V); t transition (s): 80n; DatasheetVersion: Rev. B; PackageVersion: Aug-05; PackageReference: RQ-16; PackageDescription: 16-Pin Shrink Small Outline Package, Body 4.9 x 3.9 mm, Pitch 0.64 mm; Supplier 1: Digi-Key; Supplier Part Number 1: ADG658YRQ-REEL-ND; Supplier 2: Mouser; Supplier Part Number 2: 584-ADG658YRQ-R; Packing: Reel; Mounting Technology: Surface Mount; Code_JEDEC: MO-137-AB; ComponentLink1Description: Manufacturer URL; ComponentLink1URL: http://www.analog.com/en/index.html; ComponentLink2Description: Datasheet; ComponentLink2URL: http://www.analog.com/static/imported-files/data_sheets/ADG658_659.pdf; ComponentLink3Description: Package Specification; ComponentLink3URL: http://www.analog.com/static/imported-files/packages/5595549651201762937RQ_16.pdf
footprint ADI-RQ-16_N (SOP, 16-Leads, Body 4.9x3.9mm, Pitch 0.64mm, IPC Medium Density)
footprint ADI-RQ-16_L (SOP, 16-Leads, Body 4.9x3.9mm, Pitch 0.64mm, IPC High Density)
footprint ADI-RQ-16_M (SOP, 16-Leads, Body 4.9x3.9mm, Pitch 0.64mm, IPC Low Density)
pins: 1 S5 "Source Terminal. May be an input or output.", 2 S7 "Source Terminal. May be an input or output.", 3 D "Drain Terminal. May be an input or output.", 4 S8 "Source Terminal. May be an input or output.", 5 S6 "Source Terminal. May be an input or output.", 6 ~{EN} (in) "Active Low Digital Input. When high, device is disabled and all switches are OFF. When low, AX logic inputs determine ON switch.", 7 VSS (power) "Most Negative Power Supply Potential.", 8 GND (power) "Ground (0 V) Reference.", 9 A2 (in) "Logic Control Input.", 10 A1 (in) "Logic Control Input.", 11 A0 (in) "Logic Control Input.", 12 S4 "Source Terminal. May be an input or output.", 13 S1 "Source Terminal. May be an input or output.", 14 S2 "Source Terminal. May be an input or output.", 15 S3 "Source Terminal. May be an input or output.", 16 VDD (power) "Most Positive Power Supply Potential."

## ADG658YRQZ
designator U?
3 V / 5 V / +/-5 V CMOS 8-Channel Analog Multiplexer, -40 to 125 degC, 16-pin SOP (RQ-16), Tube; Manufacturer: Analog Devices; PartNumber: ADG658YRQZ; Bandwidth (Hz): 210M; Max Analog Signal Range: Vss to Vdd; Ron (ohms): 45; Supply V Guar Performance: Dual_(+/-5V), Single_(+3.3V), Single_(+3V), Single_(+5V); t transition (s): 80n; DatasheetVersion: Rev. B; PackageVersion: Aug-05; PackageReference: RQ-16; PackageDescription: 16-Pin Shrink Small Outline Package, Body 4.9 x 3.9 mm, Pitch 0.64 mm; Supplier 1: Digi-Key; Supplier Part Number 1: ADG658YRQZ-ND; Supplier 2: Mouser; Supplier Part Number 2: 584-ADG658YRQZ; Packing: Tube; Mounting Technology: Surface Mount; Code_JEDEC: MO-137-AB; ComponentLink1Description: Manufacturer URL; ComponentLink1URL: http://www.analog.com/en/index.html; ComponentLink2Description: Datasheet; ComponentLink2URL: http://www.analog.com/static/imported-files/data_sheets/ADG658_659.pdf; ComponentLink3Description: Package Specification; ComponentLink3URL: http://www.analog.com/static/imported-files/packages/5595549651201762937RQ_16.pdf
footprint ADI-RQ-16_N (SOP, 16-Leads, Body 4.9x3.9mm, Pitch 0.64mm, IPC Medium Density)
footprint ADI-RQ-16_L (SOP, 16-Leads, Body 4.9x3.9mm, Pitch 0.64mm, IPC High Density)
footprint ADI-RQ-16_M (SOP, 16-Leads, Body 4.9x3.9mm, Pitch 0.64mm, IPC Low Density)
pins: 1 S5 "Source Terminal. May be an input or output.", 2 S7 "Source Terminal. May be an input or output.", 3 D "Drain Terminal. May be an input or output.", 4 S8 "Source Terminal. May be an input or output.", 5 S6 "Source Terminal. May be an input or output.", 6 ~{EN} (in) "Active Low Digital Input. When high, device is disabled and all switches are OFF. When low, AX logic inputs determine ON switch.", 7 VSS (power) "Most Negative Power Supply Potential.", 8 GND (power) "Ground (0 V) Reference.", 9 A2 (in) "Logic Control Input.", 10 A1 (in) "Logic Control Input.", 11 A0 (in) "Logic Control Input.", 12 S4 "Source Terminal. May be an input or output.", 13 S1 "Source Terminal. May be an input or output.", 14 S2 "Source Terminal. May be an input or output.", 15 S3 "Source Terminal. May be an input or output.", 16 VDD (power) "Most Positive Power Supply Potential."

## ADG658YRQZ-REEL7
designator U?
3 V / 5 V / +/-5 V CMOS 8-Channel Analog Multiplexer, -40 to 125 degC, 16-pin SOP (RQ-16), Reel; Manufacturer: Analog Devices; PartNumber: ADG658YRQZ-REEL7; Bandwidth (Hz): 210M; Max Analog Signal Range: Vss to Vdd; Ron (ohms): 45; Supply V Guar Performance: Dual_(+/-5V), Single_(+3.3V), Single_(+3V), Single_(+5V); t transition (s): 80n; DatasheetVersion: Rev. B; PackageVersion: Aug-05; PackageReference: RQ-16; PackageDescription: 16-Pin Shrink Small Outline Package, Body 4.9 x 3.9 mm, Pitch 0.64 mm; Supplier 1: Digi-Key; Supplier Part Number 1: ADG658YRQZ-REEL7-ND; Supplier 2: Newark; Supplier Part Number 2: 59K1457; Supplier 3: Mouser; Supplier Part Number 3: 584-ADG658YRQZ-R7; Packing: Reel; Mounting Technology: Surface Mount; Code_JEDEC: MO-137-AB; ComponentLink1Description: Manufacturer URL; ComponentLink1URL: http://www.analog.com/en/index.html; ComponentLink2Description: Datasheet; ComponentLink2URL: http://www.analog.com/static/imported-files/data_sheets/ADG658_659.pdf; ComponentLink3Description: Package Specification; ComponentLink3URL: http://www.analog.com/static/imported-files/packages/5595549651201762937RQ_16.pdf
footprint ADI-RQ-16_N (SOP, 16-Leads, Body 4.9x3.9mm, Pitch 0.64mm, IPC Medium Density)
footprint ADI-RQ-16_L (SOP, 16-Leads, Body 4.9x3.9mm, Pitch 0.64mm, IPC High Density)
footprint ADI-RQ-16_M (SOP, 16-Leads, Body 4.9x3.9mm, Pitch 0.64mm, IPC Low Density)
pins: 1 S5 "Source Terminal. May be an input or output.", 2 S7 "Source Terminal. May be an input or output.", 3 D "Drain Terminal. May be an input or output.", 4 S8 "Source Terminal. May be an input or output.", 5 S6 "Source Terminal. May be an input or output.", 6 ~{EN} (in) "Active Low Digital Input. When high, device is disabled and all switches are OFF. When low, AX logic inputs determine ON switch.", 7 VSS (power) "Most Negative Power Supply Potential.", 8 GND (power) "Ground (0 V) Reference.", 9 A2 (in) "Logic Control Input.", 10 A1 (in) "Logic Control Input.", 11 A0 (in) "Logic Control Input.", 12 S4 "Source Terminal. May be an input or output.", 13 S1 "Source Terminal. May be an input or output.", 14 S2 "Source Terminal. May be an input or output.", 15 S3 "Source Terminal. May be an input or output.", 16 VDD (power) "Most Positive Power Supply Potential."

## ADG658YRU
designator U?
3 V / 5 V / +/-5 V CMOS 8-Channel Analog Multiplexer, -40 to 125 degC, 16-pin SOP (RU-16), Tube; Manufacturer: Analog Devices; PartNumber: ADG658YRU; Bandwidth (Hz): 210M; Max Analog Signal Range: Vss to Vdd; Ron (ohms): 45; Supply V Guar Performance: Dual_(+/-5V), Single_(+3.3V), Single_(+3V), Single_(+5V); t transition (s): 80n; DatasheetVersion: Rev. B; PackageVersion: Nov-02; PackageReference: RU-16; PackageDescription: 16-Pin Thin Shrink Small Outline Package, Body 5 x 4.4 mm, Pitch 0.65 mm; Supplier 1: Digi-Key; Supplier Part Number 1: ADG658YRU-ND; Supplier 2: Mouser; Supplier Part Number 2: 584-ADG658YRU; Packing: Tube; Mounting Technology: Surface Mount; Code_JEDEC: MO-153AB; ComponentLink1Description: Manufacturer URL; ComponentLink1URL: http://www.analog.com/en/index.html; ComponentLink2Description: Datasheet; ComponentLink2URL: http://www.analog.com/static/imported-files/data_sheets/ADG658_659.pdf; ComponentLink3Description: Package Specification; ComponentLink3URL: http:/www.analog.com/static/imported-files/packages/36244347913743854010197452789RU16.pdf
footprint ADI-RU-16_N (SOP, 16-Leads, Body 5x4.4mm, Pitch 0.65mm, IPC Medium Density)
footprint ADI-RU-16_L (SOP, 16-Leads, Body 5x4.4mm, Pitch 0.65mm, IPC High Density)
footprint ADI-RU-16_M (SOP, 16-Leads, Body 5x4.4mm, Pitch 0.65mm, IPC Low Density)
pins: 1 S5 "Source Terminal. May be an input or output.", 2 S7 "Source Terminal. May be an input or output.", 3 D "Drain Terminal. May be an input or output.", 4 S8 "Source Terminal. May be an input or output.", 5 S6 "Source Terminal. May be an input or output.", 6 ~{EN} (in) "Active Low Digital Input. When high, device is disabled and all switches are OFF. When low, AX logic inputs determine ON switch.", 7 VSS (power) "Most Negative Power Supply Potential.", 8 GND (power) "Ground (0 V) Reference.", 9 A2 (in) "Logic Control Input.", 10 A1 (in) "Logic Control Input.", 11 A0 (in) "Logic Control Input.", 12 S4 "Source Terminal. May be an input or output.", 13 S1 "Source Terminal. May be an input or output.", 14 S2 "Source Terminal. May be an input or output.", 15 S3 "Source Terminal. May be an input or output.", 16 VDD (power) "Most Positive Power Supply Potential."

## ADG658YRU-REEL7
designator U?
3 V / 5 V / +/-5 V CMOS 8-Channel Analog Multiplexer, -40 to 125 degC, 16-pin SOP (RU-16), Reel; Manufacturer: Analog Devices; PartNumber: ADG658YRU-REEL7; Bandwidth (Hz): 210M; Max Analog Signal Range: Vss to Vdd; Ron (ohms): 45; Supply V Guar Performance: Dual_(+/-5V), Single_(+3.3V), Single_(+3V), Single_(+5V); t transition (s): 80n; DatasheetVersion: Rev. B; PackageVersion: Nov-02; PackageReference: RU-16; PackageDescription: 16-Pin Thin Shrink Small Outline Package, Body 5 x 4.4 mm, Pitch 0.65 mm; Supplier 1: Digi-Key; Supplier Part Number 1: ADG658YRU-REEL7-ND; Supplier 2: Newark; Supplier Part Number 2: 50H3057; Supplier 3: Mouser; Supplier Part Number 3: 584-ADG658YRU-R7; Packing: Reel; Mounting Technology: Surface Mount; Code_JEDEC: MO-153AB; ComponentLink1Description: Manufacturer URL; ComponentLink1URL: http://www.analog.com/en/index.html; ComponentLink2Description: Datasheet; ComponentLink2URL: http://www.analog.com/static/imported-files/data_sheets/ADG658_659.pdf; ComponentLink3Description: Package Specification; ComponentLink3URL: http:/www.analog.com/static/imported-files/packages/36244347913743854010197452789RU16.pdf
footprint ADI-RU-16_N (SOP, 16-Leads, Body 5x4.4mm, Pitch 0.65mm, IPC Medium Density)
footprint ADI-RU-16_L (SOP, 16-Leads, Body 5x4.4mm, Pitch 0.65mm, IPC High Density)
footprint ADI-RU-16_M (SOP, 16-Leads, Body 5x4.4mm, Pitch 0.65mm, IPC Low Density)
pins: 1 S5 "Source Terminal. May be an input or output.", 2 S7 "Source Terminal. May be an input or output.", 3 D "Drain Terminal. May be an input or output.", 4 S8 "Source Terminal. May be an input or output.", 5 S6 "Source Terminal. May be an input or output.", 6 ~{EN} (in) "Active Low Digital Input. When high, device is disabled and all switches are OFF. When low, AX logic inputs determine ON switch.", 7 VSS (power) "Most Negative Power Supply Potential.", 8 GND (power) "Ground (0 V) Reference.", 9 A2 (in) "Logic Control Input.", 10 A1 (in) "Logic Control Input.", 11 A0 (in) "Logic Control Input.", 12 S4 "Source Terminal. May be an input or output.", 13 S1 "Source Terminal. May be an input or output.", 14 S2 "Source Terminal. May be an input or output.", 15 S3 "Source Terminal. May be an input or output.", 16 VDD (power) "Most Positive Power Supply Potential."